# Altium footprint library ARK2.PcbLib: 1 footprints
Each footprint in its own frame and in the unit in brackets; x right, y up, seen from the top. Pads: shape width x height; smd on the part's side, far side on the other; paste and mask are expansions set on the pad; w line width, h text height; cw(c..) or ccw(c..) is an arc to the next point about the centre after c.
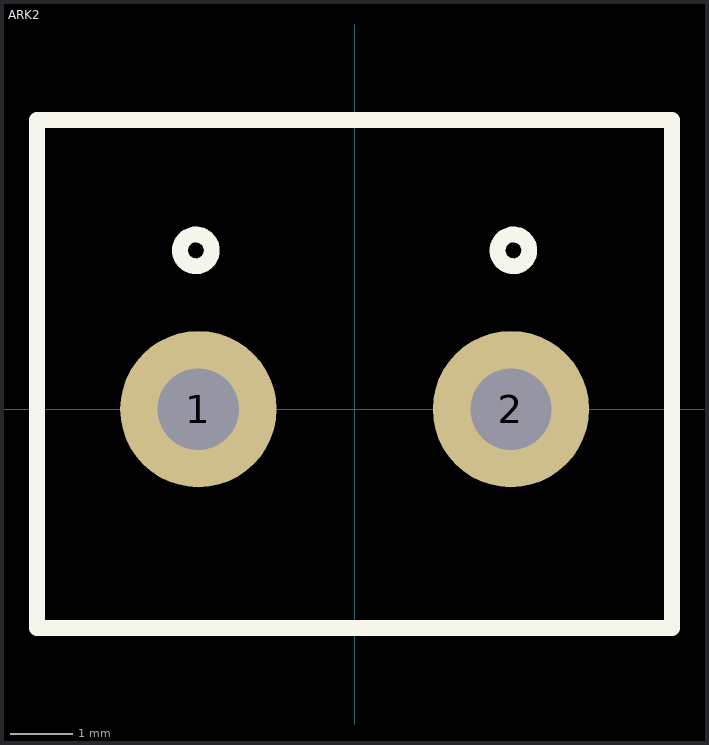
[diagram p0: the footprint, top view; thin cyan lines are the x and y axes]

## ARK2 [mm]
pads (2):
  round 2.5 hole 1.3: 1(-2.5,0) 2(2.5,0)
Top Overlay:
  circle w0.254: c2.54,2.54 r0.254
  circle w0.254: c-2.54,2.54 r0.254
  lines w0.254: -5.08,-3.5 -5.08,4.625 5.08,4.625 5.08,-3.5 -5.08,-3.5
Top Courtyard:
  lines w0.1: -5.1,-3.5 -5.1,4.6 5.06,4.6 5.06,-3.5 -5.1,-3.5
Top Assembly:
  lines w0.1: -5.08,-3.5 -5.08,4.6 5.08,4.6 5.08,-3.5 -5.08,-3.5
3D body "User Library-TB2.STEP": height 10.1, standoff -3.4, extent -5,-3.428 5,4.572